# EAGLE library part TB6612FNG (library TB6612FNG)
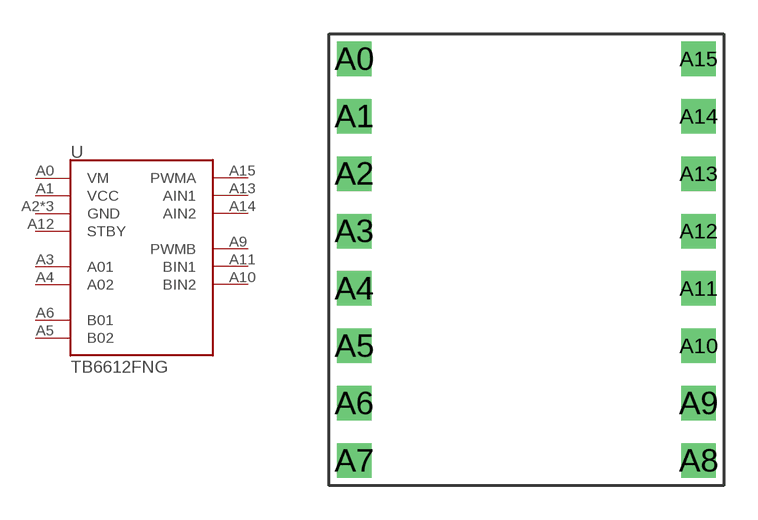
[diagram p0: symbol with the pads of TB6612FNG; footprint TB6612FNG]

Designator prefix U

## TB6612FNG  [TB6612FNG]
A0  VM
A1  VCC
A2  GND
A3  A01
A4  A02
A5  B02
A6  B01
A7  GND
A8  GND
A9  PWMB
A10  BIN2
A11  BIN1
A12  STBY
A13  AIN1
A14  AIN2
A15  PWMA

## Footprint TB6612FNG (pad centres in mm)
drill 1.016 square: A0 -7.62,8.89; A1 -7.62,6.35; A2 -7.62,3.81; A3 -7.62,1.27; A4 -7.62,-1.27; A5 -7.62,-3.81; A6 -7.62,-6.35; A7 -7.62,-8.89; A8 7.62,-8.89; A9 7.62,-6.35; A10 7.62,-3.81; A11 7.62,-1.27; A12 7.62,1.27; A13 7.62,3.81; A14 7.62,6.35; A15 7.62,8.89